# Altium footprint library SMA_Con.PcbLib: 1 footprints
Each footprint in its own frame and in the unit in brackets; x right, y up, seen from the top. Pads: shape width x height; smd on the part's side, far side on the other; paste and mask are expansions set on the pad; w line width, h text height; cw(c..) or ccw(c..) is an arc to the next point about the centre after c.
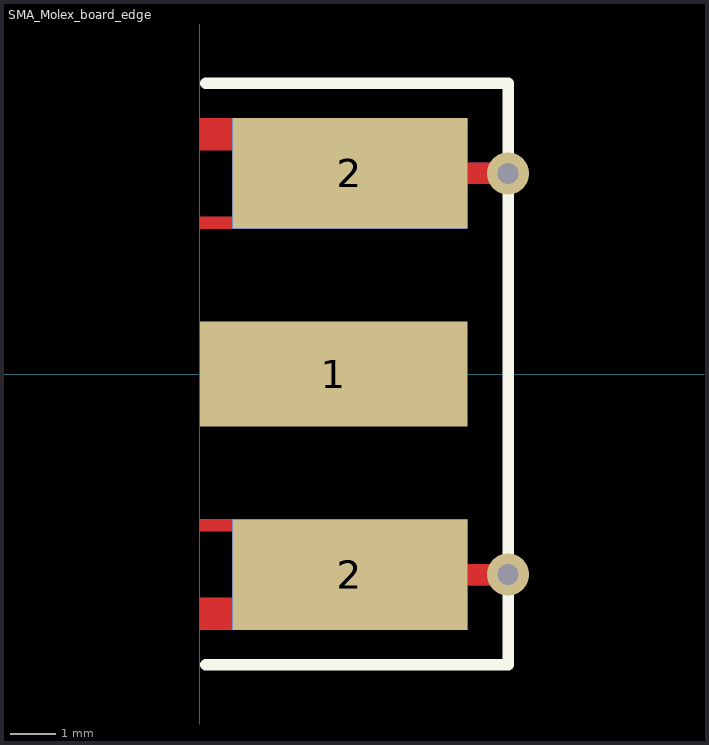
[diagram p0: the footprint, top view; thin cyan lines are the x and y axes]

## SMA_Molex_board_edge [mil] "CONN SMA RCPT STR 50OHM EDGE MNT"
height 312
pads (5):
  rect 230x90 smd: 1(115,0)
  rect 202x95 smd: 2(129,-172.5) 2(129,172.5)
  rect 202x95 smd far side: 2(129,-172.5) 2(129,172.5)
via 265,172.5 diameter 36 hole 18
via 265,-172.5 diameter 36 hole 18
Top Layer:
  region: 0,192.5 0,220 48,220 48,192.5
  region: 0,125 0,135 48,135 48,125
  region: 0,-125 0,-135 48,-135 48,-125
  region: 0,-192.5 0,-220 48,-220 48,-192.5
  region: 265,-181.5 230,-181.5 230,-163.5 265,-163.5
  region: 265,181.5 230,181.5 230,163.5 265,163.5
Bottom Layer:
  region: 265,-181.5 230,-181.5 230,-163.5 265,-163.5
  region: 265,181.5 230,181.5 230,163.5 265,163.5
Top Overlay:
  lines w10: 5,-250 265,-250 265,250 5,250
3D body: height 171, standoff -141, extent -381,-185 181,190